# Altium schematic symbol library WH-NB73 V1.1.SchLib: 3 symbols
Pins are listed as number, name and electrical type; pins without a type are passive.

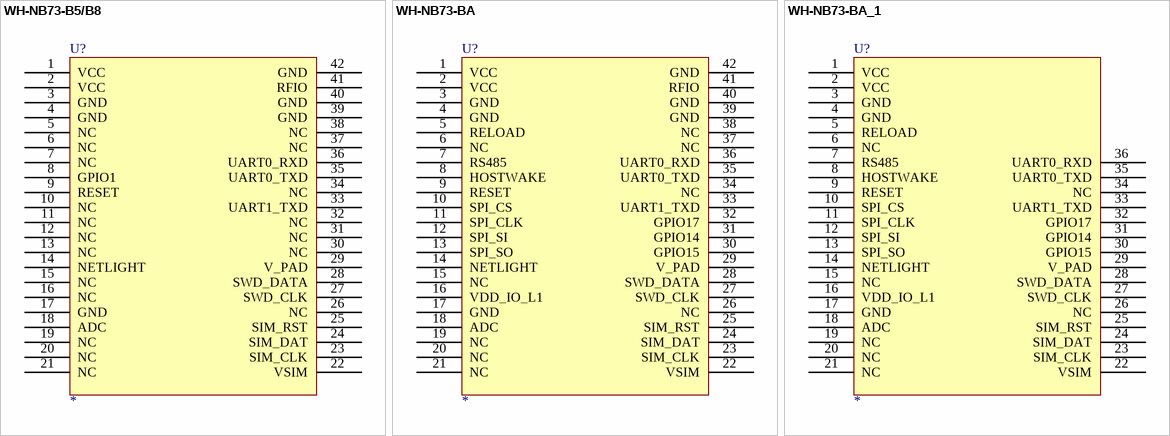
[diagram p0: symbols WH-NB73-B5/B8 to WH-NB73-BA_1]

## WH-NB73-B5/B8
designator U?
pins: 1 VCC, 2 VCC, 3 GND, 4 GND, 5 NC, 6 NC, 7 NC, 8 GPIO1, 9 RESET, 10 NC, 11 NC, 12 NC, 13 NC, 14 NETLIGHT, 15 NC, 16 NC, 17 GND, 18 ADC, 19 NC, 20 NC, 21 NC, 22 VSIM, 23 SIM_CLK, 24 SIM_DAT, 25 SIM_RST, 26 NC, 27 SWD_CLK, 28 SWD_DATA, 29 V_PAD, 30 NC, 31 NC, 32 NC, 33 UART1_TXD, 34 NC, 35 UART0_TXD, 36 UART0_RXD, 37 NC, 38 NC, 39 GND, 40 GND, 41 RFIO, 42 GND
2 alternate drawings of the same symbol

## WH-NB73-BA
designator U?
EXTERNAL ANTENNA
pins: 1 VCC, 2 VCC, 3 GND, 4 GND, 5 RELOAD, 6 NC, 7 RS485, 8 HOSTWAKE, 9 RESET, 10 SPI_CS, 11 SPI_CLK, 12 SPI_SI, 13 SPI_SO, 14 NETLIGHT, 15 NC, 16 VDD_IO_L1, 17 GND, 18 ADC, 19 NC, 20 NC, 21 NC, 22 VSIM, 23 SIM_CLK, 24 SIM_DAT, 25 SIM_RST, 26 NC, 27 SWD_CLK, 28 SWD_DATA, 29 V_PAD, 30 GPIO15, 31 GPIO14, 32 GPIO17, 33 UART1_TXD, 34 NC, 35 UART0_TXD, 36 UART0_RXD, 37 NC, 38 NC, 39 GND, 40 GND, 41 RFIO, 42 GND
2 alternate drawings of the same symbol

## WH-NB73-BA_1
designator U?
INTERNAL ANTENNA
pins: 1 VCC, 2 VCC, 3 GND, 4 GND, 5 RELOAD, 6 NC, 7 RS485, 8 HOSTWAKE, 9 RESET, 10 SPI_CS, 11 SPI_CLK, 12 SPI_SI, 13 SPI_SO, 14 NETLIGHT, 15 NC, 16 VDD_IO_L1, 17 GND, 18 ADC, 19 NC, 20 NC, 21 NC, 22 VSIM, 23 SIM_CLK, 24 SIM_DAT, 25 SIM_RST, 26 NC, 27 SWD_CLK, 28 SWD_DATA, 29 V_PAD, 30 GPIO15, 31 GPIO14, 32 GPIO17, 33 UART1_TXD, 34 NC, 35 UART0_TXD, 36 UART0_RXD
2 alternate drawings of the same symbol